# EAGLE library part SIP20 (library ic-package)
Single In Line
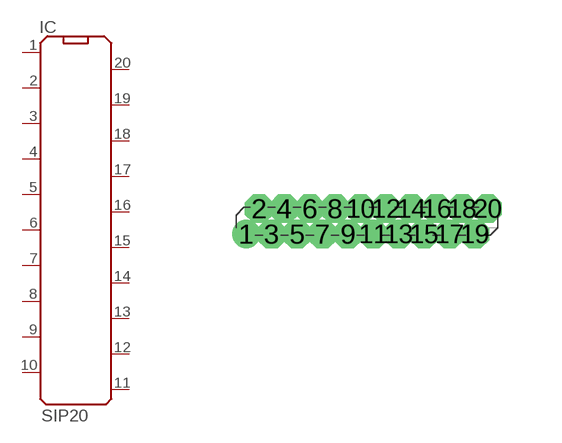
[diagram p20: symbol with the pads of ZIP20; footprint ZIP20]

Designator prefix IC

## SIP20  [ZIP20]
1  1  pas
2  2  pas
3  3  pas
4  4  pas
5  5  pas
6  6  pas
7  7  pas
8  8  pas
9  9  pas
10  10  pas
11  11  pas
12  12  pas
13  13  pas
14  14  pas
15  15  pas
16  16  pas
17  17  pas
18  18  pas
19  19  pas
20  20  pas

## Footprint ZIP20 (pad centres in mm)
Single In Line Socket
drill 0.203: 1 -3.016,-0.318
drill 0.203 octagon: 2 -2.699,0.318; 3 -2.381,-0.318; 4 -2.064,0.318; 5 -1.746,-0.318; 6 -1.429,0.318; 7 -1.111,-0.318; 8 -0.794,0.318; 9 -0.476,-0.318; 10 -0.159,0.318; 11 0.159,-0.318; 12 0.476,0.318; 13 0.794,-0.318; 14 1.111,0.318; 15 1.429,-0.318; 16 1.746,0.318; 17 2.064,-0.318; 18 2.381,0.318; 19 2.699,-0.318; 20 3.016,0.318